# Altium schematic symbol library Keypad.SchLib: 1 symbol
Pins are listed as number, name and electrical type; pins without a type are passive.

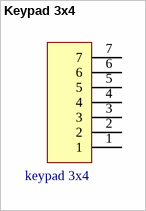
[diagram p0: symbol Keypad 3x4]

## Keypad 3x4
designator Keypad, comment keypad 3x4
footprint Keypad 3x4
pins: 1, 2, 3, 4, 5, 6, 7